# Altium schematic symbol library VCO.SchLib: 1 symbol
Pins are listed as number, name and electrical type; pins without a type are passive.

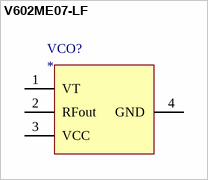
[diagram p0: symbol V602ME07-LF]

## V602ME07-LF
designator VCO?
datasheet: https://www.zcomm.com/pdfs/datasheets/V602ME07-LF.pdf
pins: 1 VT, 2 RFout, 3 VCC, 4 GND